# Altium footprint library PCBComponents.PcbLib: 2 footprints
Each footprint in its own frame and in the unit in brackets; x right, y up, seen from the top. Pads: shape width x height; smd on the part's side, far side on the other; paste and mask are expansions set on the pad; w line width, h text height; cw(c..) or ccw(c..) is an arc to the next point about the centre after c.
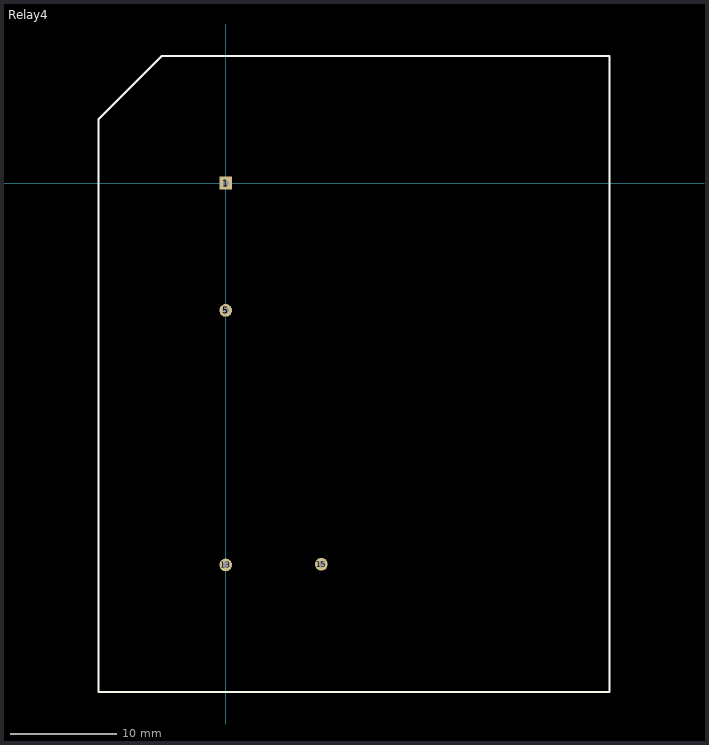
[diagram p0: the footprints below, top view; thin cyan lines are the x and y axes]

## PCBComponent_1 [mm]

## Relay4 [mm]
pads (4):
  rect 1.2x1.2 hole 0.6: 1(0,0)
  round 1.2 hole 0.6: 5(0,-12) 13(0,-36) 15(9.017,-35.941)
Top Overlay:
  lines w0.2: -12,-48 -12,6 -6,12 36.195,12 36.195,-48 -12,-48